# EAGLE library part EFM8BB2 (library EFM8BB2x-QFN28)
DMOS Microstepping Driver with Translator
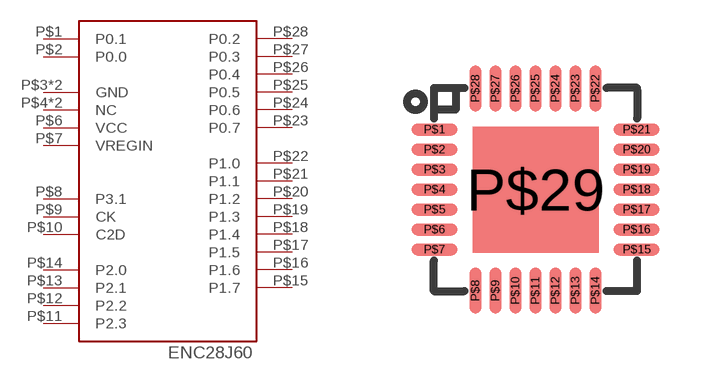
[diagram p0: symbol with the pads of QFN-28-5MM; footprint QFN-28-5MM]

Designator prefix U

## EFM8BB25MM  [QFN-28-5MM]
P$1  P0.1
P$2  P0.0
P$3  GND  pwr
P$4  NC  nc
P$5  NC  nc
P$6  VCC  pwr
P$7  VREGIN  in
P$8  P3.1
P$9  CK  out
P$10  C2D
P$11  P2.3
P$12  P2.2
P$13  P2.1
P$14  P2.0
P$15  P1.7
P$16  P1.6
P$17  P1.5
P$18  P1.4
P$19  P1.3
P$20  P1.2
P$21  P1.1
P$22  P1.0
P$23  P0.7
P$24  P0.6
P$25  P0.5
P$26  P0.4
P$27  P0.3
P$28  P0.2
P$29  GND  pwr

## Footprint QFN-28-5MM (pad centres in mm)
smd 1.15 x 0.3: P$1 -2.527,1.5; P$2 -2.527,1; P$3 -2.527,0.5; P$4 -2.527,0; P$5 -2.527,-0.5; P$6 -2.527,-1; P$7 -2.527,-1.5; P$15 2.527,-1.5; P$16 2.527,-1; P$17 2.527,-0.5; P$18 2.527,0; P$19 2.527,0.5; P$20 2.527,1; P$21 2.527,1.5
smd 0.3 x 1.15: P$8 -1.5,-2.527; P$9 -1,-2.527; P$10 -0.5,-2.527; P$11 0,-2.527; P$12 0.5,-2.527; P$13 1,-2.527; P$14 1.5,-2.527; P$22 1.5,2.527; P$23 1,2.527; P$24 0.5,2.527; P$25 0,2.527; P$26 -0.5,2.527; P$27 -1,2.527; P$28 -1.5,2.527
smd 3.15 x 3.15: P$29 0,0